# Altium schematic symbol library ERA-8AEB131V.SchLib: 1 symbol
Pins are listed as number, name and electrical type; pins without a type are passive.

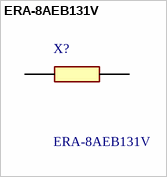
[diagram p0: symbol ERA-8AEB131V]

## ERA-8AEB131V
designator X?
Thin Film Resistors - SMD 1206 130ohm 0.1% 25ppm; Manufacturer_Name: Panasonic; Geometry.Height: 0.7mm; Mouser Part Number: 667-ERA-8AEB131V; Mouser Price/Stock: https://www.mouser.co.uk/ProductDetail/Panasonic/ERA-8AEB131V?qs=Ojoo2rCVP9TrpPj4XUmTEQ%3D%3D; Manufacturer_Part_Number: ERA-8AEB131V; Datasheet Link: https://industrial.panasonic.com/cdbs/www-data/pdf/RDM0000/AOA0000C307.pdf
footprint RESC3216X70N
pins: 1, 2